# Altium footprint library PcbLib1.PcbLib: 2 footprints
Each footprint in its own frame and in the unit in brackets; x right, y up, seen from the top. Pads: shape width x height; smd on the part's side, far side on the other; paste and mask are expansions set on the pad; w line width, h text height; cw(c..) or ccw(c..) is an arc to the next point about the centre after c.
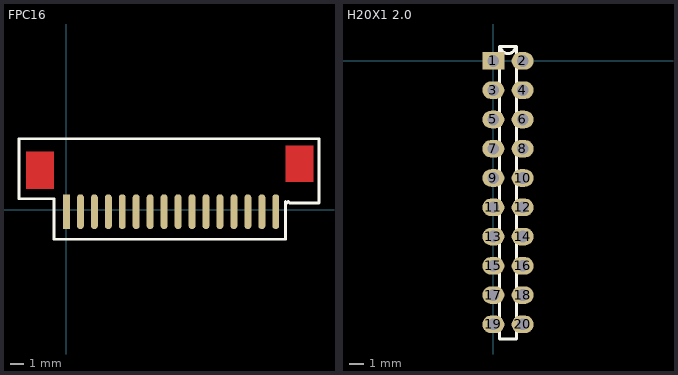
[diagram p0: the footprints below, top view; thin cyan lines are the x and y axes]

## FPC16 [mm]
pads (16):
  rect 0.5x2.5 smd: 1(0,-0.127)
  oval 0.5x2.5 smd: 2(1,-0.127) 3(2,-0.127) 4(3,-0.127) 5(4,-0.127) 6(5,-0.127) 7(6,-0.127) 8(7,-0.127) 9(8,-0.127) 10(9,-0.127) 11(10,-0.127) 12(11,-0.127) 13(12,-0.127) 14(13,-0.127) 15(14,-0.127) 16(15,-0.127)
Top Layer:
  rectangle: 15.7,2 17.7,4.6
  rectangle: -2.9,1.5 -0.9,4.2
Top Overlay:
  lines w0.2: -3.4,0.8 -0.9,0.8 -0.9,-2.1 15.7,-2.1 15.7,0.6 15.8,0.5 15.9,0.6 16,0.5 17.9,0.5 18.1,0.5 18.1,5.1 -3.4,5.1 -3.4,0.8

## H20X1 2.0 [mm]
pads (20):
  rect 1.5x1.2 / inner rect 1.2x1.2 / far side rect 1.5x1.2 hole 0.8: 1(0,0)
  oval 1.5x1.2 / inner round 1.2 / far side oval 1.5x1.2 hole 0.8: 2(2,0) 3(0,-2) 4(2,-2) 5(0,-4) 6(2,-4) 7(0,-6) 8(2,-6) 9(0,-8) 10(2,-8) 11(0,-10) 12(2,-10) 13(0,-12) 14(2,-12) 15(0,-14) 16(2,-14) 17(0,-16) 18(2,-16) 19(0,-18) 20(2,-18)
Top Overlay:
  lines w0.2: 0.415,-19 1.585,-19 1.585,1 0.5,1 ccw(c1,1) 1.5,1 0.415,1 0.415,-19